# Altium footprint library SH.PcbLib: 3 footprints
Each footprint in its own frame and in the unit in brackets; x right, y up, seen from the top. Pads: shape width x height; smd on the part's side, far side on the other; paste and mask are expansions set on the pad; w line width, h text height; cw(c..) or ccw(c..) is an arc to the next point about the centre after c.
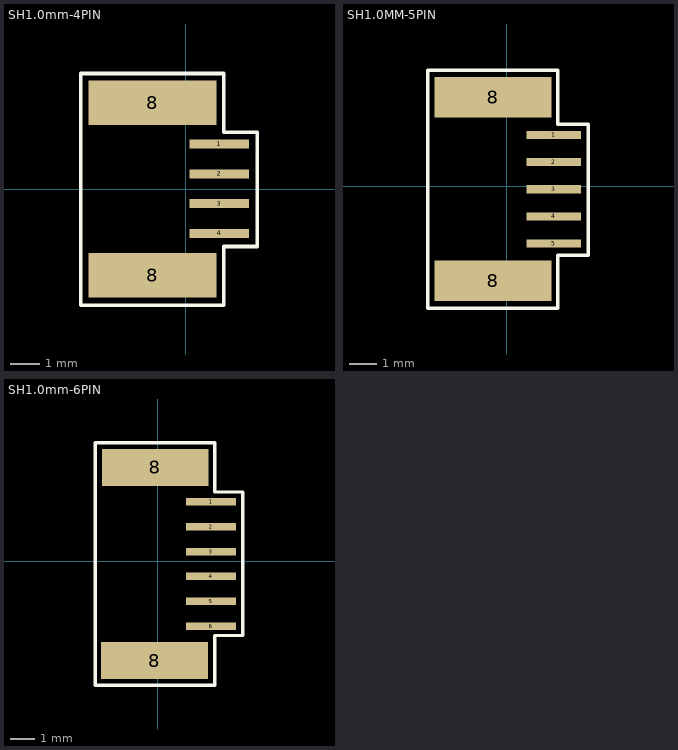
[diagram p0: the footprints below, top view; thin cyan lines are the x and y axes]

## SH1.0mm-4PIN [mm]
pads (6):
  rect 2x0.3 smd: 1(1.122,1.508) 2(1.122,0.508) 3(1.122,-0.492) 4(1.122,-1.492)
  rect 4.3x1.5 smd: 8(-1.122,-2.896) 8(-1.122,2.896)
Top Overlay:
  lines w0.127: -3.535,-3.912 1.272,-3.912 1.272,-1.93 2.397,-1.93 2.397,1.908 1.272,1.908 1.272,3.886 -3.535,3.886 -3.535,-3.912

## SH1.0MM-5PIN [mm]
pads (7):
  rect 2x0.3 smd: 1(1.735,1.889) 2(1.735,0.889) 3(1.735,-0.111) 4(1.735,-1.111) 5(1.735,-2.111)
  rect 4.3x1.5 smd: 8(-0.508,-3.48) 8(-0.508,3.277)
Top Overlay:
  lines w0.127: -2.921,-4.496 1.885,-4.496 1.885,-2.54 3.01,-2.54 3.01,2.289 1.885,2.289 1.885,4.267 -2.921,4.267 -2.921,-4.496

## SH1.0mm-6PIN [mm]
pads (8):
  rect 2x0.3 smd: 1(2.142,2.397) 2(2.142,1.397) 3(2.142,0.397) 4(2.142,-0.603) 5(2.142,-1.603) 6(2.142,-2.603)
  rect 4.3x1.5 smd: 8(-0.127,-3.988) 8(-0.102,3.785)
Top Overlay:
  lines w0.127: -2.515,-4.978 -2.515,4.775 2.292,4.775 2.292,2.797 3.417,2.797 3.417,-2.978 2.292,-2.978 2.292,-4.978 -2.515,-4.978
3D body: height 4.25, standoff -0.7, extent -2.308,-4.103 0.592,3.897